# Altium schematic symbol library NodeMCU.SchLib: 1 symbol
Pins are listed as number, name and electrical type; pins without a type are passive.

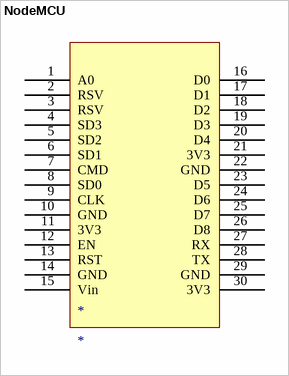
[diagram p0: symbol NodeMCU]

## NodeMCU
designator *
footprint PCBComponent_1 - duplicate
pins: 1 A0, 2 RSV, 3 RSV, 4 SD3, 5 SD2, 6 SD1, 7 CMD, 8 SD0, 9 CLK, 10 GND, 11 3V3 "Power supply", 12 EN "Power supply", 13 RST "Power supply", 14 GND "Power supply", 15 Vin "Power supply", 16 D0, 17 D1, 18 D2, 19 D3, 20 D4, 21 3V3, 22 GND, 23 D5, 24 D6, 25 D7, 26 D8 "Power supply", 27 RX "Power supply", 28 TX "Power supply", 29 GND "Power supply", 30 3V3 "Power supply"